# Altium footprint library Resistor.PcbLib: 16 footprints
Each footprint in its own frame and in the unit in brackets; x right, y up, seen from the top. Pads: shape width x height; smd on the part's side, far side on the other; paste and mask are expansions set on the pad; w line width, h text height; cw(c..) or ccw(c..) is an arc to the next point about the centre after c.
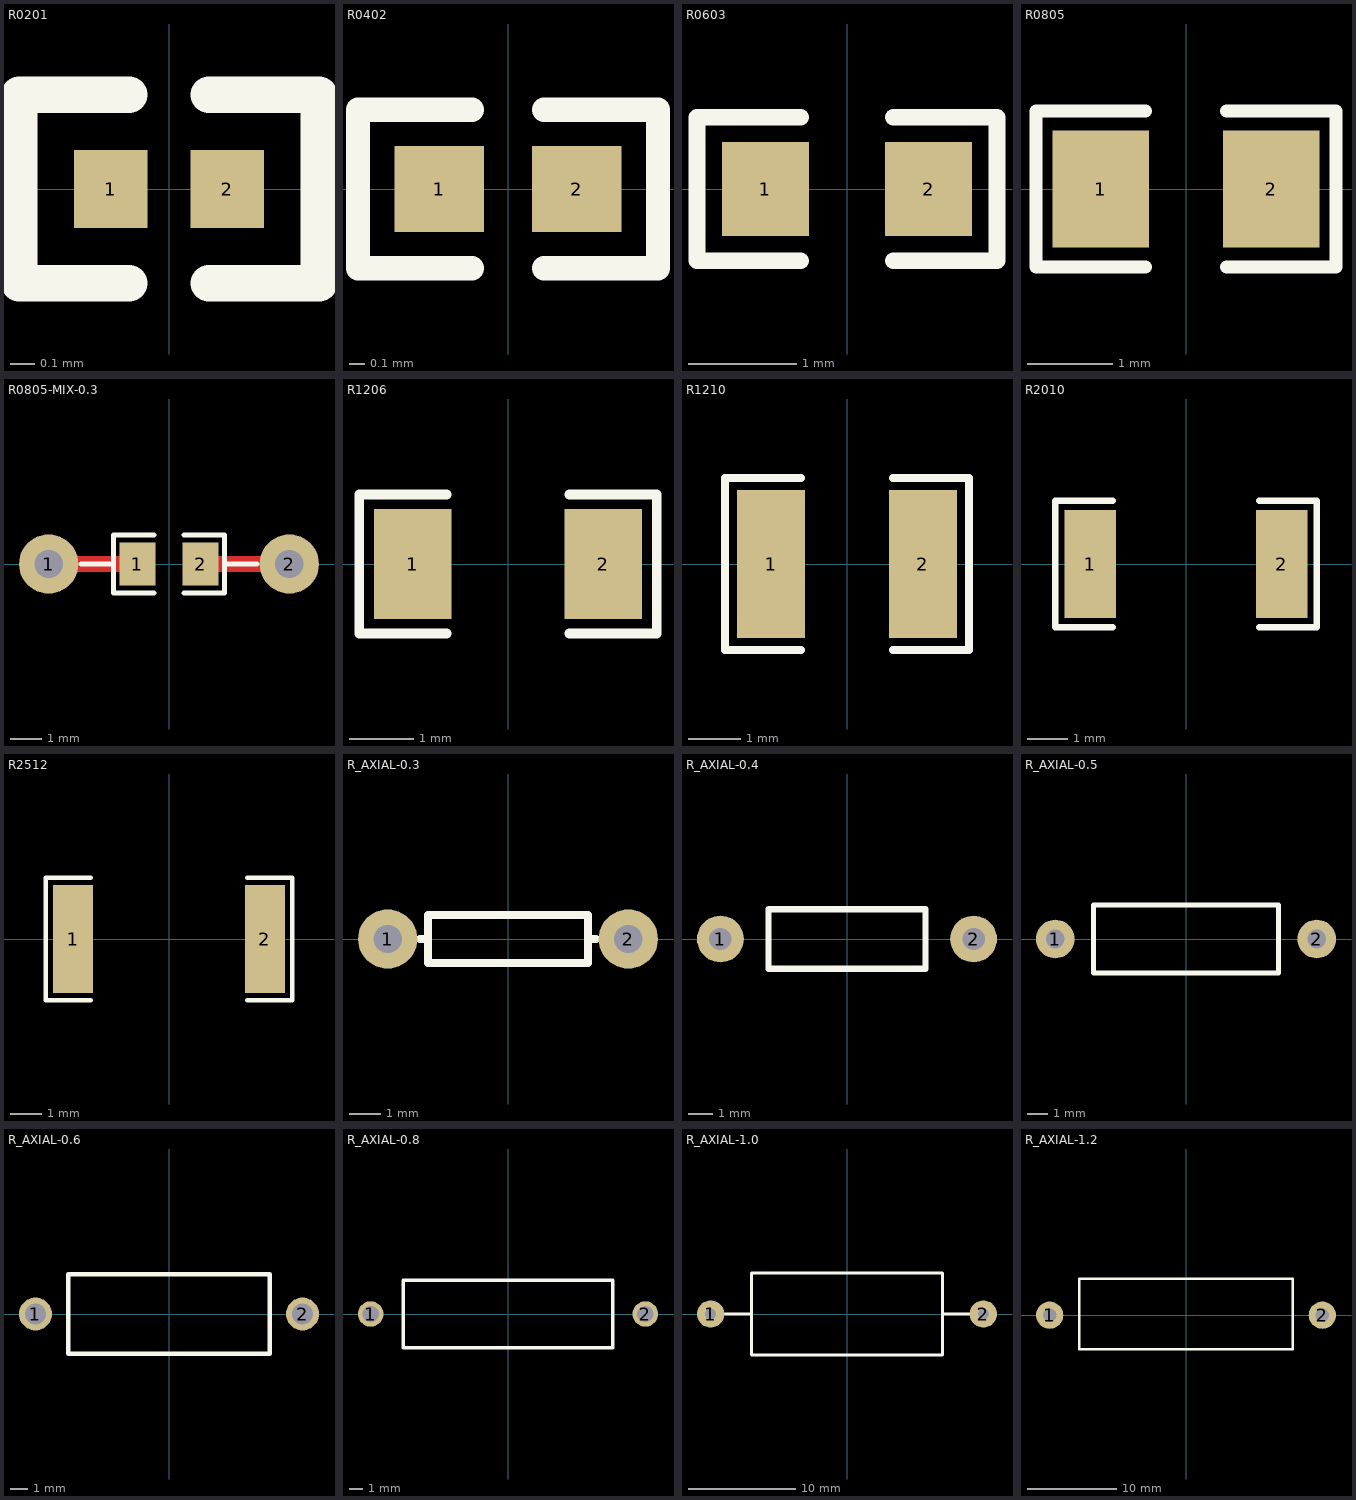
[diagram p0: the footprints below, top view; thin cyan lines are the x and y axes]

## R0201 [mil] "贴片电阻"
pads (2):
  rect 11.93x12.76 smd paste-3937.01 mask+2: 1(-9.51,0) 2(9.51,0)
Top Overlay:
  lines w6: -6.54,-15.38 -24.48,-15.38 -24.48,15.38 -6.54,15.38 ; 6.54,-15.38 24.48,-15.38 24.48,15.38 6.54,15.38
Top Paste:
  region: -3.19,-5.43 -3.19,5.43 -4.13,6.38 -14.53,6.38 -15.48,5.43 -15.48,-5.43 -14.53,-6.38 -4.13,-6.38
  region: 3.19,-5.43 3.19,5.43 4.13,6.38 14.53,6.38 15.48,5.43 15.48,-5.43 14.53,-6.38 4.13,-6.38

## R0402 [mm] "贴片电阻"
pads (2):
  rect 0.566x0.54 smd paste-100 mask+0.051: 1(-0.433,0) 2(0.433,0)
Top Overlay:
  lines w0.152: -0.226,-0.499 -0.944,-0.499 -0.944,0.499 -0.226,0.499 ; 0.226,-0.499 0.944,-0.499 0.944,0.499 0.226,0.499
Top Paste:
  region: -0.135,-0.23 -0.135,0.23 -0.175,0.27 -0.676,0.27 -0.716,0.23 -0.716,-0.23 -0.676,-0.27 -0.175,-0.27
  region: 0.135,-0.23 0.135,0.23 0.175,0.27 0.676,0.27 0.716,0.23 0.716,-0.23 0.676,-0.27 0.175,-0.27

## R0603 [mil] "贴片电阻"
pads (2):
  rect 31.75x34.02 smd paste-3937.01 mask+2: 1(-29.66,0) 2(29.66,0)
Top Overlay:
  lines w6: -16.78,-26.01 -54.53,-26.01 -54.53,26.01 -16.78,26.01 ; 16.78,-26.01 54.53,-26.01 54.53,26.01 16.78,26.01
Top Paste:
  region: 47.05,17.72 15.55,17.72 13.58,15.75 13.58,6.77 28.15,6.77 28.15,-6.22 13.58,-6.22 13.58,-15.75 15.55,-17.72 47.05,-17.72 49.02,-15.75 49.02,15.75
  region: -13.98,15.75 -13.98,6.77 -28.94,6.77 -28.94,-6.22 -13.98,-6.22 -13.98,-15.75 -15.94,-17.72 -47.05,-17.72 -49.02,-15.75 -49.02,15.75 -47.05,17.72 -15.94,17.72

## R0805 [mil] "贴片电阻"
pads (2):
  rect 44.59x54.21 smd paste-3937.01 mask+2: 1(-39.37,0) 2(39.37,0)
Top Overlay:
  lines w6: -18.75,-36.11 -69.34,-36.11 -69.34,36.11 -18.75,36.11 ; 18.75,-36.11 69.34,-36.11 69.34,36.11 18.75,36.11
Top Paste:
  region: -66.93,-25.2 -66.93,25.2 -64.96,27.16 -19.68,27.16 -17.72,25.2 -17.52,9.05 -35.24,9.05 -35.24,-8.66 -17.91,-8.66 -17.72,-25.2 -19.68,-27.17 -64.96,-27.17
  region: 17.72,-25.2 17.72,-8.66 35.24,-8.66 35.24,9.05 17.91,9.05 17.72,25.2 19.68,27.16 64.96,27.16 66.93,25.2 66.93,-25.2 64.96,-27.17 19.68,-27.17

## R0805-MIX-0.3 [mil] "贴片或直插电阻"
pads (4):
  round 74 hole 35.4 paste-99999 mask+2: 1(-150,0) 2(150,0)
  rect 44.59x54.21 smd paste-3937.01 mask+2: 1(-39.37,0) 2(39.37,0)
Top Layer:
  lines w20: -150,0 -39.37,0 ; 39.37,0 150,0
Top Overlay:
  lines w6: -110,0 -70,0 ; -18.75,-36.11 -69.34,-36.11 -69.34,36.11 -18.75,36.11 ; 18.75,-36.11 69.34,-36.11 69.34,36.11 18.75,36.11 ; 70,0 110,0
Top Paste:
  region: 17.72,-25.2 17.72,-8.66 35.24,-8.66 35.24,9.05 17.91,9.05 17.72,25.2 19.68,27.16 64.96,27.16 66.93,25.2 66.93,-25.2 64.96,-27.17 19.68,-27.17
  region: -66.93,-25.2 -66.93,25.2 -64.96,27.16 -19.68,27.16 -17.72,25.2 -17.52,9.05 -35.24,9.05 -35.24,-8.66 -17.91,-8.66 -17.72,-25.2 -19.68,-27.17 -64.96,-27.17

## R1206 [mil] "贴片电阻"
pads (2):
  rect 47.54x66.97 smd paste-3937.01 mask+2: 1(-58.22,0) 2(58.22,0)
Top Overlay:
  lines w6: -37.45,-42.48 -90.99,-42.48 -90.99,42.48 -37.45,42.48 ; 37.45,-42.48 90.99,-42.48 90.99,42.48 37.45,42.48
Top Paste:
  region: -34.45,-29.55 -34.45,-15.32 -38.39,-11.38 -46.68,-11.38 -50.61,-7.45 -50.61,7.45 -46.68,11.38 -38.39,11.38 -34.45,15.32 -34.45,29.55 -38.39,33.48 -78.05,33.48 -81.99,29.55 -81.99,-29.55 -78.05,-33.48 -38.39,-33.48
  region: 34.45,-29.55 34.45,-15.32 38.39,-11.38 46.68,-11.38 50.61,-7.45 50.61,7.45 46.68,11.38 38.39,11.38 34.45,15.32 34.45,29.55 38.39,33.48 78.05,33.48 81.99,29.55 81.99,-29.55 78.05,-33.48 38.39,-33.48

## R1210 [mil] "贴片电阻"
pads (2):
  rect 50.49x110.55 smd paste-3937.01 mask+2: 1(-56.74,0) 2(56.74,0)
Top Overlay:
  lines w6: -34.5,-64.28 -90.99,-64.28 -90.99,64.28 -34.5,64.28 ; 34.5,-64.28 90.99,-64.28 90.99,64.28 34.5,64.28
Top Paste:
  region: 31.5,-51.34 31.5,-22.73 35.43,-18.79 44.73,-18.79 48.66,-14.86 48.66,14.86 44.73,18.79 35.43,18.79 31.5,22.73 31.5,51.34 35.43,55.28 78.05,55.28 81.99,51.34 81.99,-51.34 78.05,-55.28 35.43,-55.28
  region: -31.5,-51.34 -31.5,-22.73 -35.43,-18.79 -44.73,-18.79 -48.66,-14.86 -48.66,14.86 -44.73,18.79 -35.43,18.79 -31.5,22.73 -31.5,51.34 -35.43,55.28 -78.05,55.28 -81.99,51.34 -81.99,-51.34 -78.05,-55.28 -35.43,-55.28

## R2010 [mm] "贴片电阻"
pads (2):
  rect 1.283x2.7 smd paste-100 mask+0.051: 1(-2.391,0) 2(2.391,0)
Top Overlay:
  lines w0.152: -1.826,-1.579 -3.261,-1.579 -3.261,1.579 -1.826,1.579 ; 1.826,-1.579 3.261,-1.579 3.261,1.579 1.826,1.579
Top Paste:
  region: -1.75,-1.25 -1.75,-0.559 -1.85,-0.459 -2.086,-0.459 -2.186,-0.359 -2.186,0.359 -2.086,0.459 -1.85,0.459 -1.75,0.559 -1.75,1.25 -1.85,1.35 -2.933,1.35 -3.033,1.25 -3.033,-1.25 -2.933,-1.35 -1.85,-1.35
  region: 1.75,-1.25 1.75,-0.559 1.85,-0.459 2.086,-0.459 2.186,-0.359 2.186,0.359 2.086,0.459 1.85,0.459 1.75,0.559 1.75,1.25 1.85,1.35 2.933,1.35 3.033,1.25 3.033,-1.25 2.933,-1.35 1.85,-1.35

## R2512 [mil] "贴片电阻"
pads (2):
  rect 50.49x136.06 smd paste-3937.01 mask+2: 1(-120.72,0) 2(120.72,0)
Top Overlay:
  lines w6: -98.47,-77.03 -154.97,-77.03 -154.97,77.03 -98.47,77.03 ; 98.47,-77.03 154.97,-77.03 154.97,77.03 98.47,77.03
Top Paste:
  region: 95.47,-64.09 95.47,-27.07 99.41,-23.13 108.7,-23.13 112.64,-19.19 112.64,19.19 108.7,23.13 99.41,23.13 95.47,27.07 95.47,64.09 99.41,68.03 142.03,68.03 145.97,64.09 145.97,-64.09 142.03,-68.03 99.41,-68.03
  region: -95.47,-64.09 -95.47,-27.07 -99.41,-23.13 -108.7,-23.13 -112.64,-19.19 -112.64,19.19 -108.7,23.13 -99.41,23.13 -95.47,27.07 -95.47,64.09 -99.41,68.03 -142.03,68.03 -145.97,64.09 -145.97,-64.09 -142.03,-68.03 -99.41,-68.03

## R_AXIAL-0.3 [mil] "直插电阻"
pads (2):
  round 74 hole 35.4 paste-99999 mask+2: 1(-150,0) 2(150,0)
Top Overlay:
  lines w10: -110,0 -100,0 ; 110,0 100,0 ; -100,0 -100,-30 100,-30 100,0 ; -100,0 -100,30 100,30 100,0

## R_AXIAL-0.4 [mil] "直插电阻"
pads (2):
  round 74 hole 35.4 paste-99999 mask+2: 1(-200,0) 2(200,0)
Top Overlay:
  lines w10: -124,-47 124,-47 124,47 -124,47 -124,-47

## R_AXIAL-0.5 [mil] "直插电阻"
pads (2):
  round 74 hole 35.4 paste-99999 mask+2: 1(-250,0) 2(250,0)
Top Overlay:
  lines w10: -177,-65 -177,65 177,65 177,-65 -177,-65

## R_AXIAL-0.6 [mil] "直插电阻"
pads (2):
  round 74 hole 47.2 paste-99999 mask+2: 1(-300,0) 2(300,0)
Top Overlay:
  lines w10: -226,-89 226,-89 226,89 -226,89 -226,-89

## R_AXIAL-0.8 [mil] "直插电阻"
pads (2):
  round 74 hole 47.2 paste-99999 mask+2: 1(-400,0) 2(400,0)
Top Overlay:
  lines w10: -305,-98 -305,98 305,98 305,-98 -305,-98

## R_AXIAL-1.0 [mil] "直插电阻"
pads (2):
  round 100 hole 40 paste-99999 mask+2: 1(-500,0) 2(500,0)
Top Overlay:
  lines w10: -500,0 -350,0 ; 350,0 500,0 ; -350,0 -350,-150 350,-150 350,150 -350,150 -350,0

## R_AXIAL-1.2 [mil] "直插电阻"
pads (2):
  round 120 hole 60 paste-99999 mask+2: 1(-600,0) 2(600,0)
Top Overlay:
  lines w10: -470,-150 -470,130 -470,160 469.45,160 469.45,-150 -470,-150